# EAGLE library part HC-06_BLUETOOTH_MODULE (library hc-06_bluetooth_module)
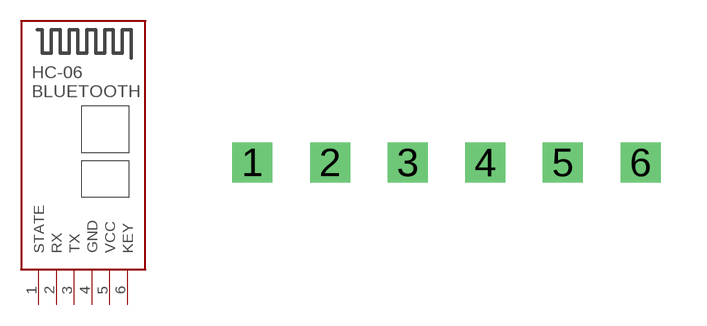
[diagram p0: symbol with the pads of HC-06; footprint HC-06]

Designator prefix -

## HC-06_BLUETOOTH_MODULE  [HC-06]
1  STATE
2  RX  in
3  TX  out
4  GND
5  VCC  in
6  KEY  in

## Footprint HC-06 (pad centres in mm)
drill 0.8 square: 1 -5.08,0; 2 -2.54,0; 3 0,0; 4 2.54,0; 5 5.08,0; 6 7.62,0